# EAGLE library part ID-12/20 (library SparkFun-RF)
ID Innovations 125kHz RFID Reader (ID2, ID3, ID12, and ID20) The IDS, ID3, ID12, and ID20 are very simple to use RFID reader modules. Power the module, hold up a 125kHz card, and get a serial string output containing the unique ID of the card. SparkFun Products RFID Reader ID-3LA (125 kHz) <https://www.sparkfun.com/products/11862> (SEN-11862) RFID Reader ID-12LA (125 kHz) <https://www.sparkfun.com/products/11827> (SEN-11827) RFID Reader ID-20LA (125 kHz) <https://www.sparkfun.com/products/11828> (SEN-11828) SparkFun RFID USB Reader <https://www.sparkfun.com/products/9963> (SEN-9963)
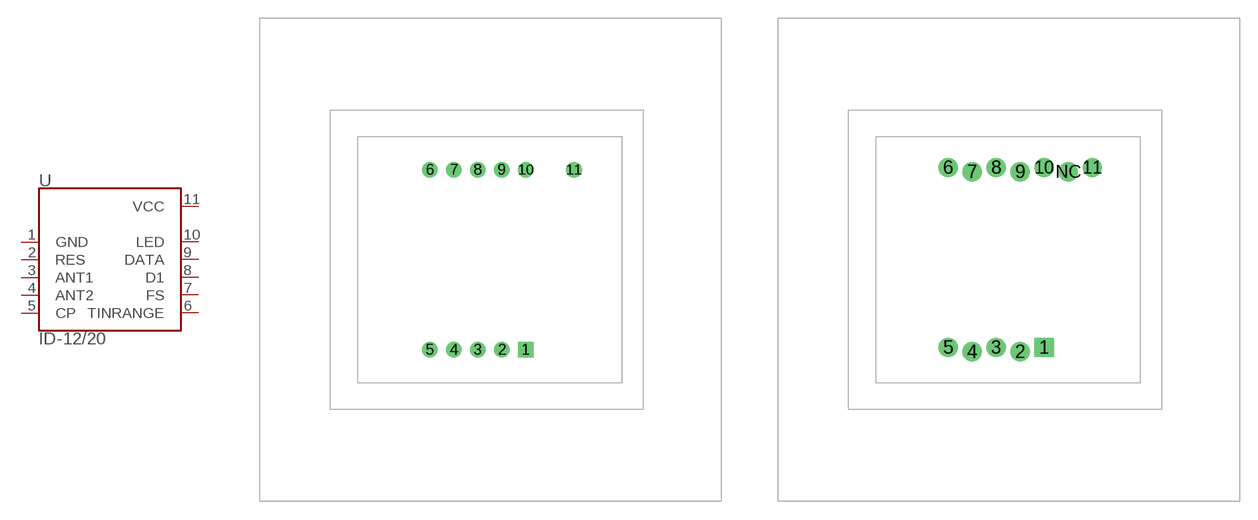
[diagram p3: symbol with the pads of ID-12; footprints ID-12, ID-12_LOCK]

Designator prefix U

## ID-12/20 (PROD_ID: CONN-08875)  [ID-12]
1  GND
2  RES
3  ANT1
4  ANT2
5  CP
6  TINRANGE
7  FS
8  D1
9  DATA
10  LED
11  VCC

## ID-12/20ID-12_LOCK (PROD_ID: CONN-08875)  [ID-12_LOCK]
Pads as for ID-12

## ID-12/20SMD (PROD_ID: CONN-09345, CONN-09344)  [ID-12_SMD]
Pads as for ID-12

## Footprint ID-12 (pad centres in mm)
ID-2, ID-12, and ID-20 Low-voltage RFID Readers Footprint works for ID-2LA, ID-12LA, and ID-20LA modules Dimensions of RFID readers vary, but the pin-out remains the same. Datasheet <http://cdn.sparkfun.com/datasheets/Sensors/ID/ID-2LA,%20ID-12LA,%20ID-20LA2013-4-10.pdf>
drill 0.8 square: 1 3,-7.5
drill 0.8: 2 1,-7.5; 3 -1,-7.5; 4 -3,-7.5; 5 -5,-7.5; 6 -5,7.5; 7 -3,7.5; 8 -1,7.5; 9 1,7.5; 10 3,7.5; 11 7,7.5

## Footprint ID-12_LOCK (pad centres in mm)
ID-2, ID-12, and ID-20 Low-voltage RFID Readers Locking PTH footprint! Adjacent holes are offset. Footprint works for ID-2LA, ID-12LA, and ID-20LA modules Dimensions of RFID readers vary, but the pin-out remains the same. Datasheet <http://cdn.sparkfun.com/datasheets/Sensors/ID/ID-2LA,%20ID-12LA,%20ID-20LA2013-4-10.pdf>
drill 0.737 pad 1.6 square: 1 2.999,-7.311
drill 0.737 pad 1.6: 2 0.999,-7.666; 3 -1.001,-7.311; 4 -3.001,-7.666; 5 -5.001,-7.311; 6 -5.001,7.689; 7 -3.001,7.334; 8 -1.001,7.689; 9 0.999,7.334; 10 2.999,7.689; 11 6.999,7.689; NC 5.012,7.334

## Footprint ID-12_SMD (pad centres in mm)
ID-2, ID-12, and ID-20 Low-voltage RFID Readers - SMD Footprint Footprint works for ID-2LA, ID-12LA, and ID-20LA modules Dimensions of RFID readers vary, but the pin-out remains the same. Datasheet <http://cdn.sparkfun.com/datasheets/Sensors/ID/ID-2LA,%20ID-12LA,%20ID-20LA2013-4-10.pdf>
smd 0.85 x 1.7: 1 2.993,-8.998; 2 0.993,-5.998; 3 -1.007,-8.998; 4 -3.007,-5.998; 5 -5.007,-8.998; 6 -5.007,6.013; 7 -3.007,9.013; 8 -1.007,6.013; 9 0.993,9.013; 10 2.993,6.013; 11 6.993,6.013; NC 4.993,9.013